# EAGLE library part LTC2052 (library borkedlabs-opamps)
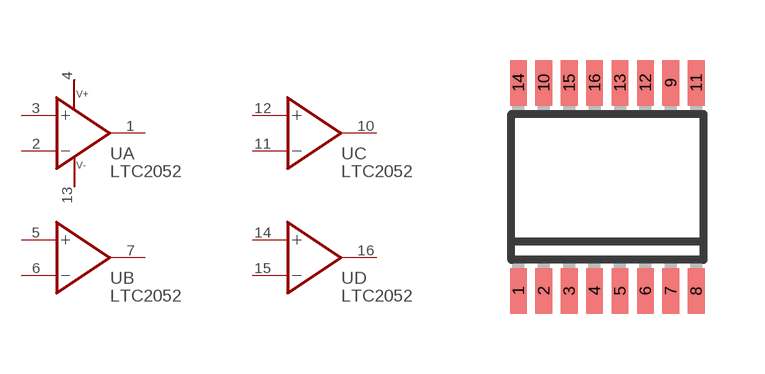
[diagram p0: symbol with the pads of SSOP16; footprint SSOP16]

Designator prefix U; gates A=OPAMP_SINGLE B=OPAMP_NO_PWR C=OPAMP_NO_PWR D=OPAMP_NO_PWR

## LTC2052HVCG  [SSOP16]
1  A:OUT
2  A:-
3  A:+
4  A:V+
5  B:+
6  B:-
7  B:OUT
10  C:OUT
11  C:-
12  C:+
13  A:V-
14  D:+
15  D:-
16  D:OUT

## Footprint SSOP16 (pad centres in mm)
GN Package 16-Lead Plastic SSOP (Narrow .150 Inch) Source: http://cds.linear.com/docs/Datasheet/623012fb.pdf
smd 0.419 x 1.143: 1 -2.223,-2.6; 2 -1.587,-2.6; 3 -0.953,-2.6; 4 -0.318,-2.6; 5 0.318,-2.6; 6 0.953,-2.6; 7 1.587,-2.6; 8 2.223,-2.6; 9 1.587,2.6; 10 -1.587,2.6; 11 2.223,2.6; 12 0.953,2.6; 13 0.318,2.6; 14 -2.223,2.6; 15 -0.953,2.6; 16 -0.318,2.6